# Altium footprint library ebox.PcbLib: 24 footprints (part 1 of 2)
Each footprint in its own frame and in the unit in brackets; x right, y up, seen from the top. Pads: shape width x height; smd on the part's side, far side on the other; paste and mask are expansions set on the pad; w line width, h text height; cw(c..) or ccw(c..) is an arc to the next point about the centre after c.
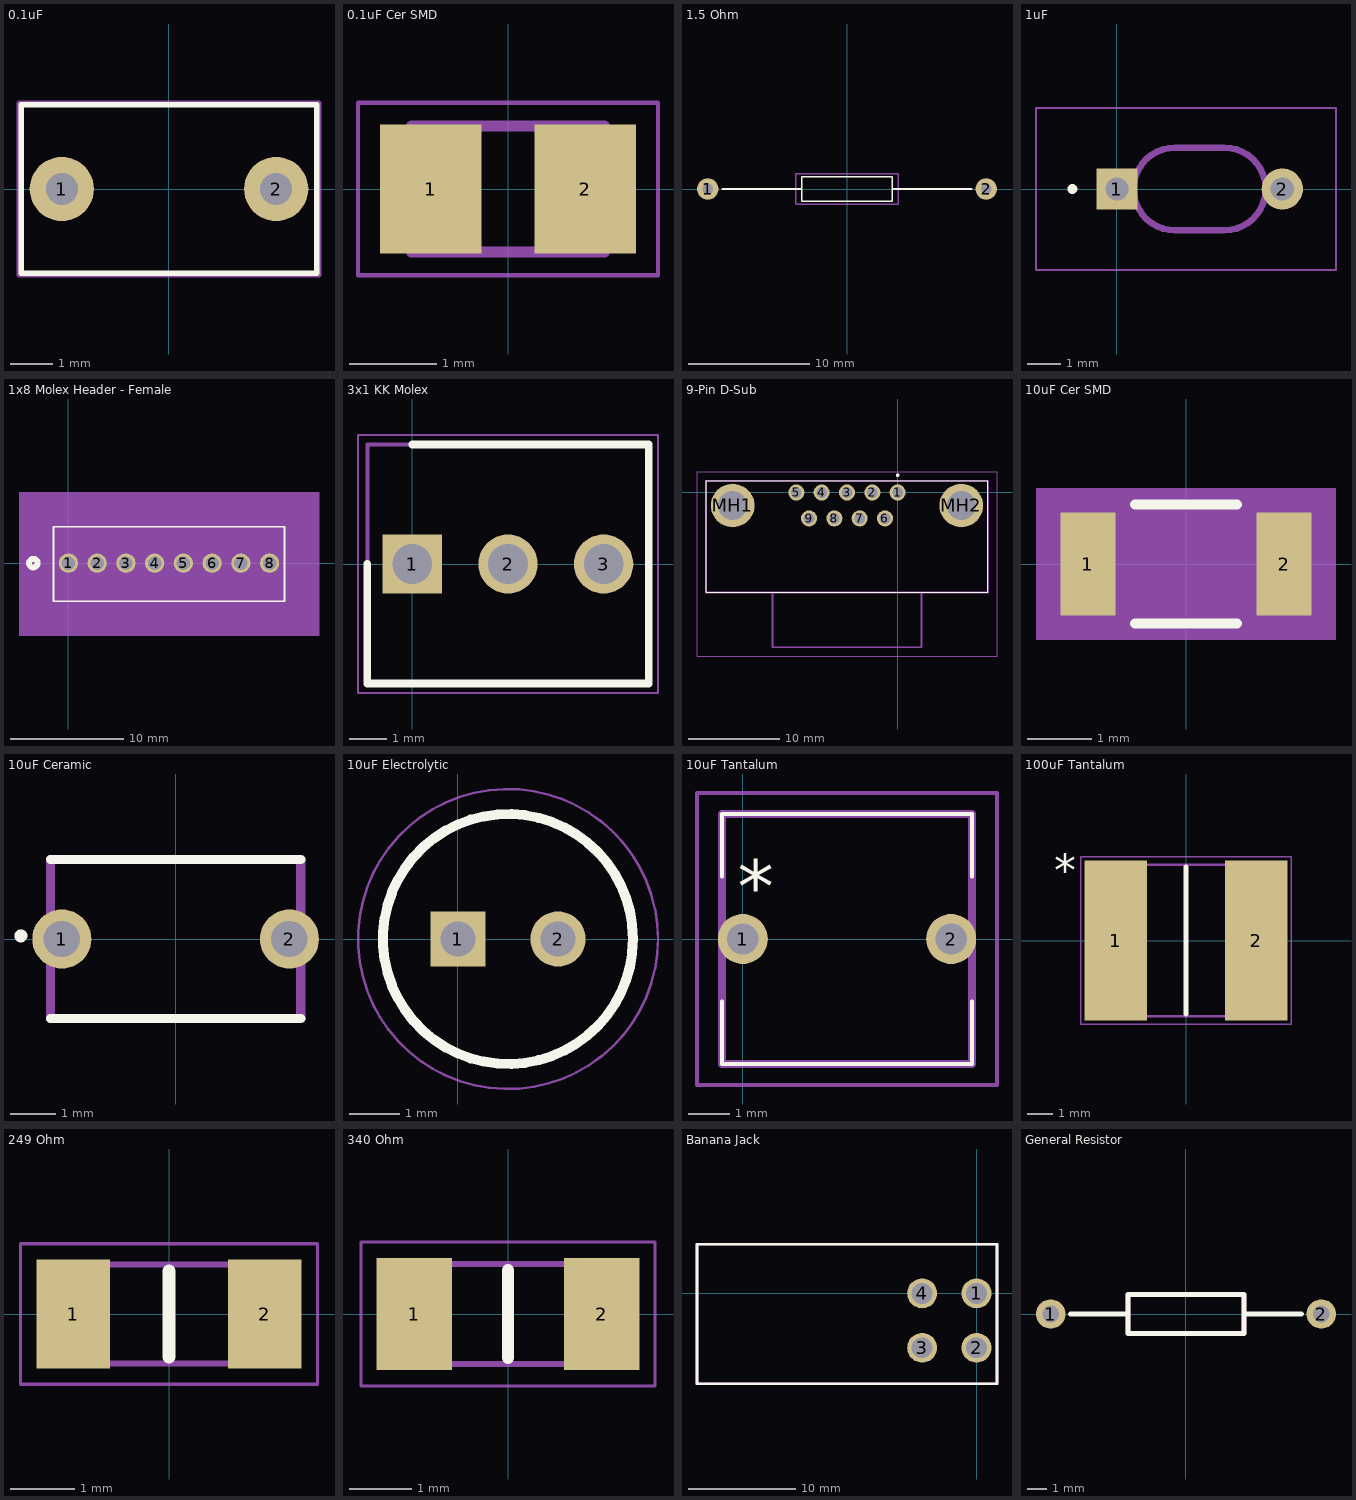
[diagram p0: the footprints below, top view; thin cyan lines are the x and y axes]

## 0.1uF [mil] "C322C104K5R5TA7305"
pads (2):
  round 60 hole 30: 1(-100,0) 2(100,0)
Top Overlay:
  lines w5: -137.8,-78.74 -137.8,78.74 137.8,78.74 137.8,-78.74 -137.8,-78.74
Mechanical 7:
  lines w5: -139.96,-80.12 -139.96,80.12 139.96,80.12 139.96,-80.12 -139.96,-80.12

## 0.1uF Cer SMD [mm] "CAPC2012X94N"
pads (2):
  rect 1.16x1.47 smd: 1(-0.88,0) 2(0.88,0)
Mechanical 13:
  lines w0.127: -1.1,-0.72 1.1,-0.72 1.1,0.72 -1.1,0.72 -1.1,-0.72
Mechanical 15:
  lines w0.05: -1.713,-0.983 1.713,-0.983 1.713,0.983 -1.713,0.983 -1.713,-0.983
3D body "step_temp.STEP": height 0.94, standoff 0, extent -1.005,-0.625 1.005,0.625

## 1.5 Ohm [mil] "PR01000101508JR500"
pads (2):
  round 70 hole 35: 1(-452.76,0) 2(452.76,0)
Top Overlay:
  lines w5: -405,0 -147.64,0 ; 147.64,0 405,0 ; -147.64,-39.37 147.64,-39.37 147.64,39.37 -147.64,39.37 -147.64,-39.37
Mechanical 7:
  lines w5: -167.32,-49.21 167.32,-49.21 167.32,49.21 -167.32,49.21 -167.32,-49.21

## 1uF [mm] "FG28"
pads (2):
  rect 1.25x1.25 hole 0.7: 1(0,0)
  round 1.25 hole 0.7: 2(5,0)
Top Overlay:
  circle w0.2: c-1.35,0 r0.05
Mechanical 13:
  lines w0.2: 1.75,-1.25 cw(c1.75,0) 1.75,1.25 3.25,1.25 cw(c3.25,0) 3.25,-1.25 1.75,-1.25
Mechanical 15:
  lines w0.05: -2.45,-2.45 6.625,-2.45 6.625,2.45 -2.45,2.45 -2.45,-2.45
3D body "FG28X5R1H105KRT06.stp": height 5.6, standoff -5, extent -0.248,-1.25 5.25,1.25

## 1x8 Molex Header - Female [mil] "CONN_171856-0008_MOL"
pads (8):
  round 67 hole 47 mask+0: 1(0,0) 2(100,0) 3(200,0) 4(300,0) 5(400,0) 6(500,0) 7(600,0) 8(700,0)
Top Overlay:
  circle w20: c-122,0 r15
  lines w6: -52,-133 -52,127 752,127 752,-133 -52,-133
Bottom Overlay:
  circle w20: c-122,0 r15
Mechanical 5:
  region: -172,247 872,247 872,-253 -172,-253
Mechanical 13:
  circle w20: c0,75 r15
  lines w1: -47,-128 -47,122 747,122 747,-128 -47,-128
Mechanical 15:
  region: 757,132 -57,132 -57,-138 757,-138
  lines w6: -57,-138 757,-138 757,132 -57,132 -57,-138
3D body: height 10, standoff 0, extent 0,0 10,10

## 3x1 KK Molex [mm] "22112032 - HDRV3W87P0X254_1X3_747X635X1105P"
pads (3):
  rect 1.575x1.575 hole 1.05: 1(0,0)
  round 1.575 hole 1.05: 2(2.54,0) 3(5.08,0)
Top Overlay:
  lines w0.2: -1.195,0 -1.195,-3.175 6.275,-3.175 6.275,3.175 0,3.175
Mechanical 13:
  lines w0.1: -1.195,-3.175 6.275,-3.175 6.275,3.175 -1.195,3.175 -1.195,-3.175
Mechanical 15:
  lines w0.05: -1.445,-3.425 6.525,-3.425 6.525,3.425 -1.445,3.425 -1.445,-3.425
3D body "22-11-2032.stp": height 10.65, standoff -3.57, extent -1.194,-3.241 6.274,3.109

## 9-Pin D-Sub [mm] "23117651"
pads (11):
  round 1.755 hole 1.17: 1(0,0) 2(-2.77,0) 3(-5.54,0) 4(-8.31,0) 5(-11.08,0) 6(-1.385,-2.84) 7(-4.155,-2.84) 8(-6.925,-2.84) 9(-9.695,-2.84)
  round 4.77 hole 3.18: MH1(-18.04,-1.42) MH2(6.96,-1.42)
Top Overlay:
  lines w0.1: -20.945,-10.92 -20.945,1.28 9.865,1.28 9.865,-10.92 -20.945,-10.92
  lines w0.2: -0.1,1.9 ccw(c0,1.9) 0.1,1.9 ccw(c0,1.9) -0.1,1.9
Mechanical 13:
  lines w0.2: -13.69,-10.92 -13.69,-16.92 2.61,-16.92 2.61,-10.92 ; -20.945,-10.92 -20.945,1.28 9.865,1.28 9.865,-10.92 -20.945,-10.92
Mechanical 15:
  lines w0.1: -21.945,-17.92 -21.945,2.28 10.865,2.28 10.865,-17.92 -21.945,-17.92
3D body "2311765-1.stp": height 12.63, standoff -4.02, extent -20.945,-16.92 9.865,1.28

## 10uF Cer SMD [mm] "CAP_CL31_SAM"
pads (2):
  rect 0.856x1.6 smd paste+0 mask+0: 1(-1.528,0) 2(1.528,0)
Top Overlay:
  lines w0.152: -0.792,-0.927 0.792,-0.927 ; -0.792,0.927 0.792,0.927
Mechanical 5:
  region: 2.337,-1.181 -2.337,-1.181 -2.337,1.181 2.337,1.181
Mechanical 13:
  lines w0.025: -1.6,-0.8 -1.6,0.8 ; -1.6,-0.8 -1.1,-0.8 -1.1,0.8 -1.6,0.8 ; -1.6,-0.8 1.6,-0.8 ; -1.6,-0.8 -1.6,0.8 ; -1.6,0.8 1.6,0.8 ; 1.6,-0.8 1.1,-0.8 1.1,0.8 1.6,0.8 ; 1.6,-0.8 1.6,0.8 ; 1.6,-0.8 1.6,0.8
Mechanical 15:
  region: 2.21,-1.054 -2.21,-1.054 -2.21,1.054 2.21,1.054
  lines w0.152: -2.21,-1.054 -2.21,1.054 2.21,1.054 2.21,-1.054 -2.21,-1.054
3D body: height 0.25, standoff 0, extent 0,0 0.254,0.254

## 10uF Ceramic [mm] "FG26"
pads (2):
  round 1.3 hole 0.8: 1(-2.5,0) 2(2.5,0)
Top Overlay:
  circle w0.2: c-3.4,0.067 r0.041
  lines w0.2: -2.75,-1.75 2.75,-1.75 ; -2.75,1.75 2.75,1.75
Mechanical 13:
  lines w0.2: -2.75,-1.75 2.75,-1.75 2.75,1.75 -2.75,1.75 -2.75,-1.75
3D body "FG26X7R1E106KRT06.stp": height 6.1, standoff -5, extent -2.798,-1.75 2.8,1.75

## 10uF Electrolytic [mm] "CAPPRD200W52D500H1250"
pads (2):
  rect 1.1x1.1 hole 0.7: 1(0,0)
  round 1.1 hole 0.7: 2(2,0)
Top Overlay:
  circle w0.2: c1,0 r2.5
Mechanical 13:
  circle w0.1: c1,0 r2.5
Mechanical 15:
  circle w0.05: c1,0 r3
3D body "860010672009.stp": height 12.5, standoff -10, extent -1.75,-2.75 3.75,2.75

## 10uF Tantalum [mm] "TAP106K035CRW"
pads (2):
  round 1.2 hole 0.75: 1(0,0) 2(5,0)
Top Overlay:
  lines w0.1: -0.5,-1.5 -0.5,-3 5.5,-3 5.5,-1.5 ; -0.5,1.5 -0.5,3 5.5,3 5.5,1.5
  text "*" at -0.127,0.635 h1.27
Mechanical 13:
  lines w0.2: -0.5,-3 -0.5,3 5.5,3 5.5,-3 -0.5,-3
Mechanical 15:
  lines w0.1: -1.1,-3.5 -1.1,3.5 6.1,3.5 6.1,-3.5 -1.1,-3.5
3D body "TAP106K035CRW.stp": height 11.6, standoff -5, extent -0.5,-3 5.5,3

## 100uF Tantalum [mm] "CAPC7360X200N"
pads (2):
  rect 2.47x6.32 smd: 1(-2.77,0) 2(2.77,0)
Top Overlay:
  lines w0.2: 0,-2.9 0,2.9
  text "*" at -5.207,2.159 h1.27
Mechanical 13:
  lines w0.1: -3.65,-3 3.65,-3 3.65,3 -3.65,3 -3.65,-3
Mechanical 15:
  lines w0.05: -4.155,-3.31 4.155,-3.31 4.155,3.31 -4.155,3.31 -4.155,-3.31
3D body "T52M1107M035C0055.stp": height 2, standoff 0, extent -3.65,-3 3.65,3

## 249 Ohm [mm] "RESC3216X70N"
pads (2):
  rect 1.15x1.7 smd: 1(-1.5,0) 2(1.5,0)
Top Overlay:
  lines w0.2: 0,-0.675 0,0.675
Mechanical 13:
  lines w0.1: -1.6,-0.775 -1.6,0.775 1.6,0.775 1.6,-0.775 -1.6,-0.775
Mechanical 15:
  lines w0.05: -2.325,-1.1 -2.325,1.1 2.325,1.1 2.325,-1.1 -2.325,-1.1
3D body "ERA-8AEB2490V.stp": height 0.7, standoff 0, extent -1.6,-0.775 1.6,0.775

## 340 Ohm [mm] "RESC3216X75N"
pads (2):
  rect 1.2x1.8 smd: 1(-1.5,0) 2(1.5,0)
Top Overlay:
  lines w0.2: 0,-0.7 0,0.7
Mechanical 13:
  lines w0.1: -1.6,-0.8 -1.6,0.8 1.6,0.8 1.6,-0.8 -1.6,-0.8
Mechanical 15:
  lines w0.05: -2.35,-1.15 -2.35,1.15 2.35,1.15 2.35,-1.15 -2.35,-1.15
3D body "CR1206-FX-3400ELF.stp": height 0.75, standoff 0, extent -1.6,-0.8 1.6,0.8

## Banana Jack [mil] "Female"
pads (4):
  round 110 hole 77: 1(0,0) 2(0,-200) 3(-200,-200) 4(-200,0)
Top Overlay:
  lines w10: -1027.36,-331.81 75,-331.81 75,180 -1027.36,180 -1027.36,-331.81
Mechanical 7:
  lines w10: -1027.36,-331.81 75,-331.81 75,180 -1027.36,180 -1027.36,-331.81

## General Resistor [mil]
pads (2):
  round 60 hole 34.17: 1(-275.59,0) 2(275.59,0)
Top Overlay:
  lines w10: -235,0 -118.11,0 ; 118.11,0 235,0 ; -118.11,-39.37 118.11,-39.37 118.11,39.37 -118.11,39.37 -118.11,-39.37
Mechanical 7:
  lines w10: -118.11,-39.37 118.11,-39.37 118.11,39.37 -118.11,39.37 -118.11,-39.37